# Altium footprint library ZERORULERV2.PcbLib: 78 footprints (part 4 of 5)
Each footprint in its own frame and in the unit in brackets; x right, y up, seen from the top. Pads: shape width x height; smd on the part's side, far side on the other; paste and mask are expansions set on the pad; w line width, h text height; cw(c..) or ccw(c..) is an arc to the next point about the centre after c.
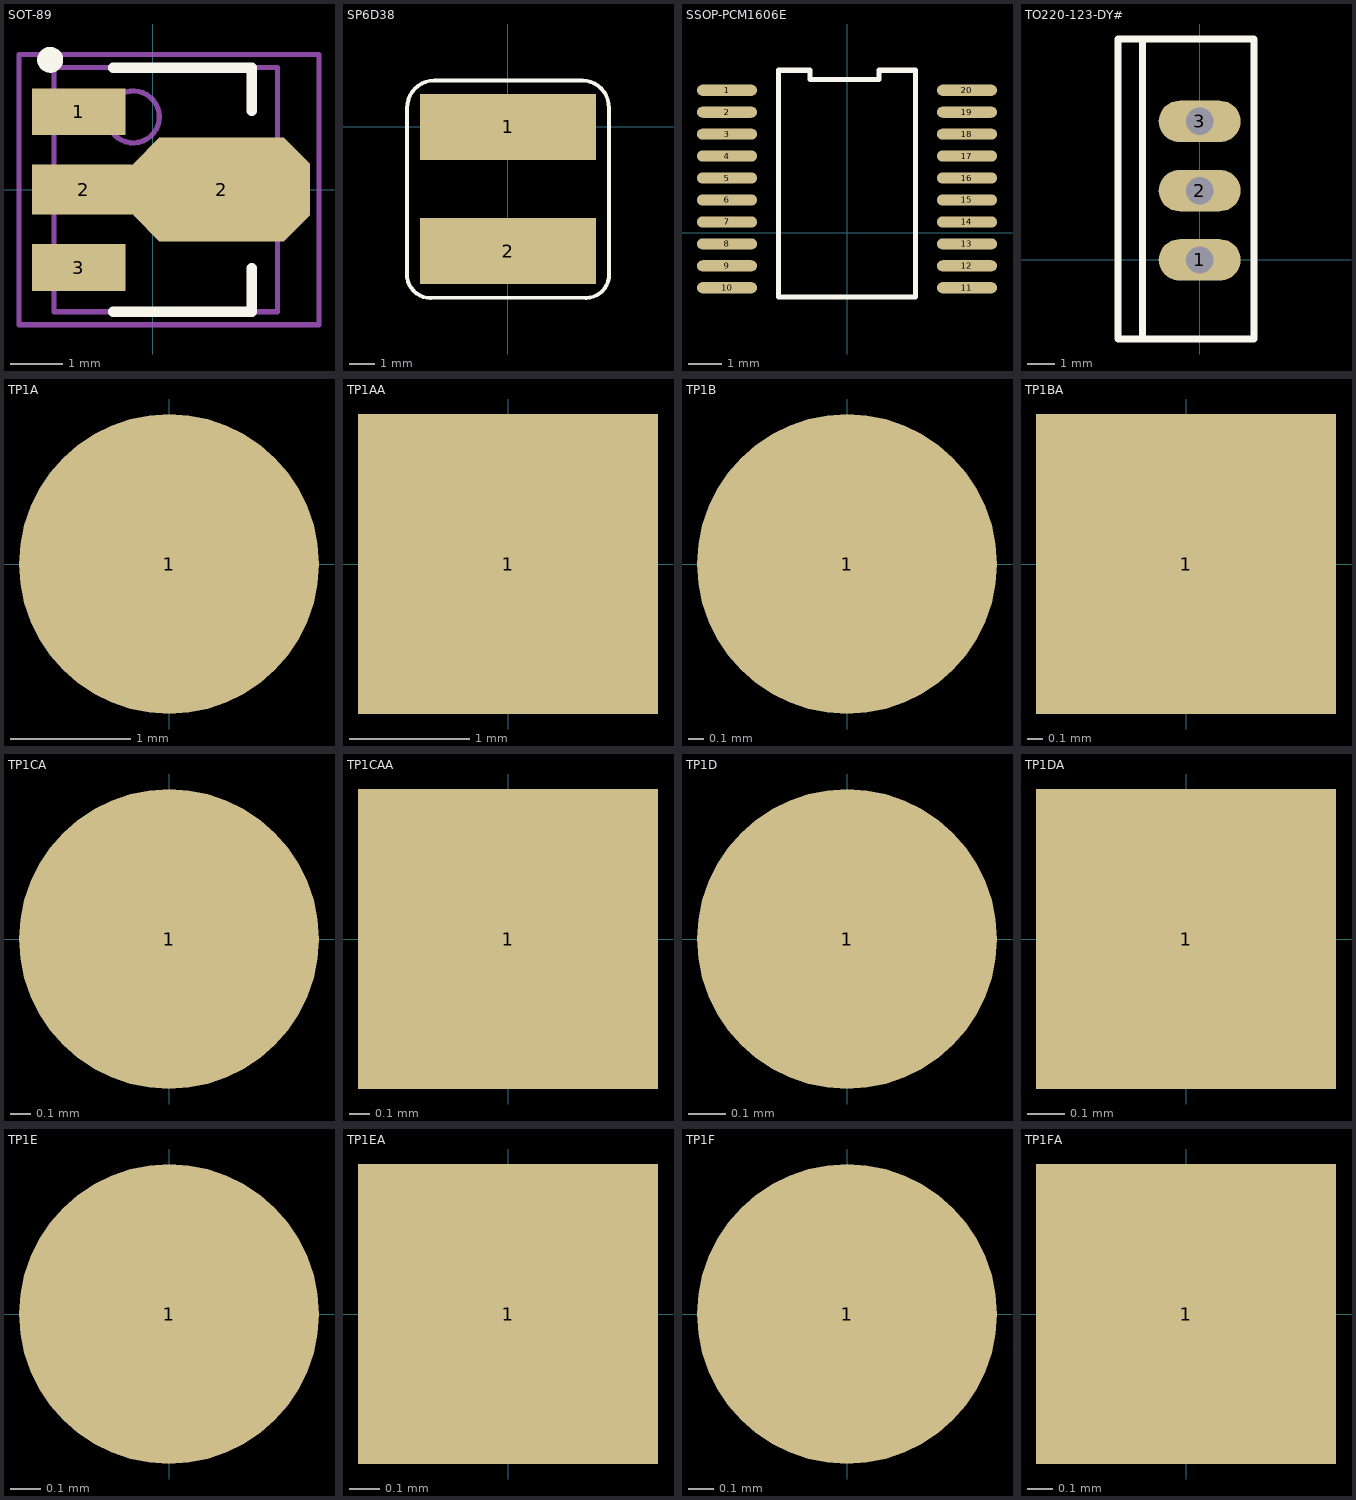
[diagram p3: the footprints below, top view; thin cyan lines are the x and y axes]

## SOT-89 [mm] "SOT89, 3-Leads, Body 4.5x2.5mm (max), Pitch 1.50mm, Lead Span 3.6mm, IPC Medium Density"
height 1.7
pads (4):
  rect 1.8x0.9 smd: 1(-1.425,1.5) 3(-1.425,-1.5)
  rect 2x0.96 smd: 2(-1.325,0)
  oct 3.4x2 smd: 2(1.325,0)
Top Overlay:
  circle w0.25: c-1.975,2.5 r0.125
  lines w0.2: -0.762,-2.35 1.905,-2.35 1.905,-1.515 ; -0.762,2.35 1.905,2.35 1.905,1.515
Mechanical 13:
  circle w0.1: c-0.375,1.4 r0.5
  lines w0.1: -1.9,-2.35 -1.9,2.35 2.4,2.35 2.4,-2.35 -1.9,-2.35
Mechanical 15:
  lines w0.1: -0.5,0 0.5,0 ; 0,-0.5 0,0.5 ; -2.575,-2.6 -2.575,2.6 3.2,2.6 3.2,-2.6 -2.575,-2.6
3D body "SOT-89.STEP": height 1.65, standoff 0, extent -1.9,-2.35 2.4,2.35

## SP6D38 [mm]
pads (2):
  rect 6.8x2.54 smd: 1(0.001,-0.007) 2(0.001,-4.807)
Top Overlay:
  lines w0.15: -3.899,-5.839 ccw(c-2.988,-5.703) -2.852,-6.614 2.876,-6.614 ccw(c3.001,-5.714) 3.901,-5.839 3.901,0.721 ccw(c2.853,0.745) 2.877,1.793 -2.853,1.793 ccw(c-2.84,0.734) -3.899,0.721 -3.899,-5.839

## SSOP-PCM1606E [mil]
pads (20):
  oval 70x13 smd: 1(-140,166.4) 2(-140,140.8) 3(-140,115.2) 4(-140,89.6) 5(-140,64) 6(-140,38.4) 7(-140,12.8) 8(-140,-12.8) 9(-140,-38.4) 10(-140,-64) 11(140,-64) 12(140,-38.4) 13(140,-12.8) 14(140,12.8) 15(140,38.4) 16(140,64) 17(140,89.6) 18(140,115.2) 19(140,140.8) 20(140,166.4)
Top Overlay:
  lines w5.91: -80,-74.8 -80,189.76 -43.31,189.76 -43.31,179.13 37.4,179.13 37.4,189.76 80,189.76 80,-74.8 -80,-74.8

## TO220-123-DY# [mm]
pads (3):
  oval 3x1.524 hole 1: 1(0,0) 2(0,2.54) 3(0,5.08)
Top Overlay:
  lines w0.254: -2.1,-2.9 -2.1,8.1 ; -3,-2.9 2,-2.9 2,8.1 -3,8.1 -3,-2.9

## TP1A [mm]
pads (1):
  round 2.5 smd: 1(0,0)

## TP1AA [mm]
pads (1):
  rect 2.5x2.5 smd: 1(0,0)

## TP1B [mm]
pads (1):
  round 2 smd: 1(0,0)

## TP1BA [mm]
pads (1):
  rect 2x2 smd: 1(0,0)

## TP1CA [mm]
pads (1):
  round 1.5 smd: 1(0,0)

## TP1CAA [mm]
pads (1):
  rect 1.5x1.5 smd: 1(0,0)

## TP1D [mm]
pads (1):
  round 0.8 smd: 1(0,0)

## TP1DA [mm]
pads (1):
  rect 0.8x0.8 smd: 1(0,0)

## TP1E [mm]
pads (1):
  round 1 smd: 1(0,0)

## TP1EA [mm]
pads (1):
  rect 1x1 smd: 1(0,0)

## TP1F [mm]
pads (1):
  round 1.2 smd: 1(0,0)

## TP1FA [mm]
pads (1):
  rect 1.2x1.2 smd: 1(0,0)